# EAGLE library part AVR_MICRIO_ICP-TH (library kanflo)
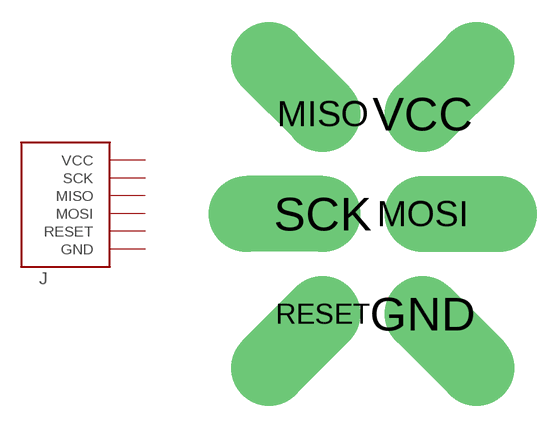
[diagram p12: symbol with the pads of AVR_MICRO_ICP_TH; footprint AVR_MICRO_ICP_TH]

Designator prefix J

## AVR_MICRIO_ICP-TH  [AVR_MICRO_ICP_TH]
GND  GND  pwr
MISO  MISO
MOSI  MOSI
RESET  RESET
SCK  SCK
VCC  VCC  pwr

## Footprint AVR_MICRO_ICP_TH (pad centres in mm)
drill 1.016 pad 1.905 offset: GND 2.5,-2.5; MISO 0,2.5; MOSI 2.5,0; RESET 0,-2.5; SCK 0,0; VCC 2.5,2.5